# EAGLE library part VOL_POT_2GANG (library Amplifier_Parts)
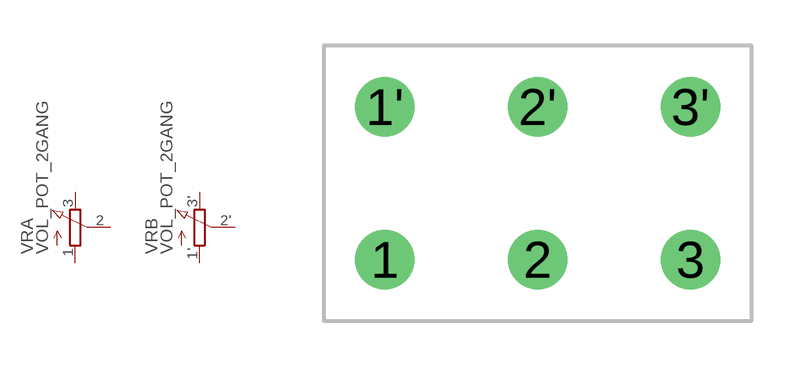
[diagram p1: symbol with the pads of VOL_POT_2GANG; footprint VOL_POT_2GANG]

Designator prefix VR; gates A=VOL_POT_2GANG B=VOL_POT_2GANG

## VOL_POT_2GANG  [VOL_POT_2GANG]
1  A:1  pas
1'  B:1  pas
2  A:2  pas
2'  B:2  pas
3  A:3  pas
3'  B:3  pas

## Footprint VOL_POT_2GANG (pad centres in mm)
drill 1.3: 1 -5,-2; 1' -5,3; 2 0,-2; 2' 0,3; 3 5,-2; 3' 5,3